# Altium schematic symbol library SCS-10P.SchLib: 1 symbol
Pins are listed as number, name and electrical type; pins without a type are passive.

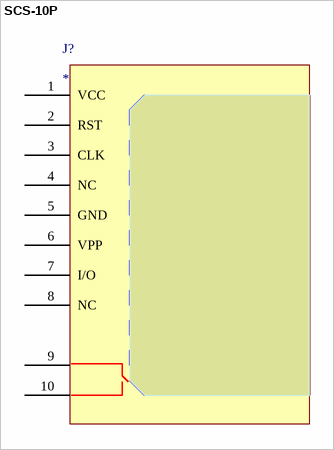
[diagram p0: symbol SCS-10P]

## SCS-10P
designator J?
pins: 1 VCC, 2 RST, 3 CLK, 4 NC, 5 GND, 6 VPP, 7 I/O, 8 NC, 9 D1, 10 D2